# Altium schematic symbol library XL_OSC_ABRACON_ACH.SchLib: 1 symbol
Pins are listed as number, name and electrical type; pins without a type are passive.

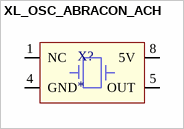
[diagram p0: symbol XL_OSC_ABRACON_ACH]

## XL_OSC_ABRACON_ACH
designator X?
pins: 1 NC, 4 GND, 5 OUT, 8 5V